# Altium footprint library LEAKCAM.PcbLib: 37 footprints (part 1 of 3)
Each footprint in its own frame and in the unit in brackets; x right, y up, seen from the top. Pads: shape width x height; smd on the part's side, far side on the other; paste and mask are expansions set on the pad; w line width, h text height; cw(c..) or ccw(c..) is an arc to the next point about the centre after c.
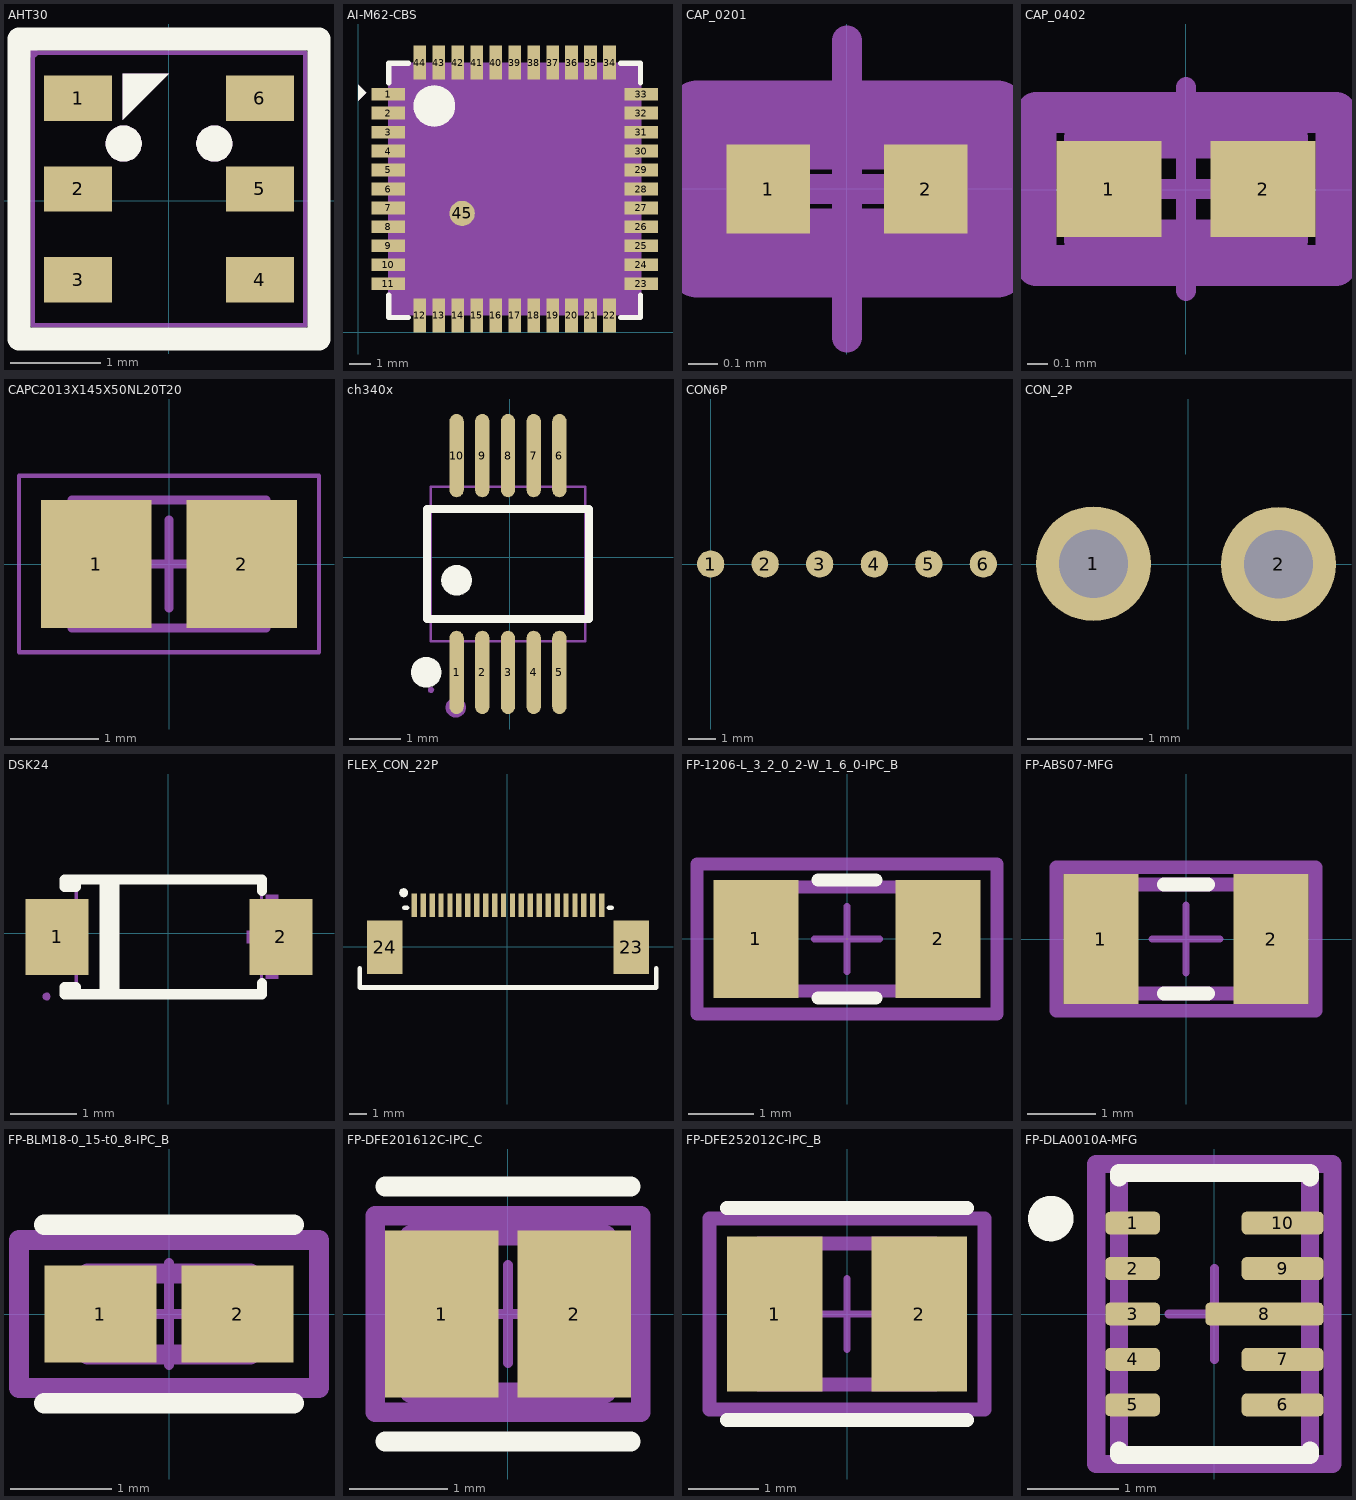
[diagram p0: the footprints below, top view; thin cyan lines are the x and y axes]

## AHT30 [mil]
pads (6):
  rect 29.5x19.7 smd: 1(-39.4,44.4) 2(-39.4,5) 3(-39.4,-34.4) 4(39.4,-34.4) 5(39.4,5) 6(39.4,44.4)
Top Overlay:
  region: -20,35 -20,55 0,55
  lines w7.9: -23.6,24.7 -23.2,23 -22.1,21.6 -20.6,20.8 -18.8,20.8 -17.2,21.6 -16.1,23 -15.7,24.7 -16.1,26.4 -17.2,27.8 -18.8,28.5 -20.6,28.5 -22.1,27.8 -23.2,26.4 -23.6,24.7 ; 15.7,24.7 16.1,23 17.2,21.6 18.8,20.8 20.6,20.8 22.1,21.6 23.2,23 23.6,24.7 23.2,26.4 22.1,27.8 20.6,28.5 18.8,28.5 17.2,27.8 16.1,26.4 15.7,24.7
  lines w10: -65,-60 -65,70 65,70 65,-60 -65,-60
Mechanical 2:
  region: -20,35 -20,55 0,55
  lines w7.9: -23.6,24.7 -23.2,23 -22.1,21.6 -20.6,20.8 -18.8,20.8 -17.2,21.6 -16.1,23 -15.7,24.7 -16.1,26.4 -17.2,27.8 -18.8,28.5 -20.6,28.5 -22.1,27.8 -23.2,26.4 -23.6,24.7 ; 15.7,24.7 16.1,23 17.2,21.6 18.8,20.8 20.6,20.8 22.1,21.6 23.2,23 23.6,24.7 23.2,26.4 22.1,27.8 20.6,28.5 18.8,28.5 17.2,27.8 16.1,26.4 15.7,24.7
Mechanical 6:
  lines w2: -59.1,-54.1 -59.1,64.1 59.1,64.1 59.1,-54.1 -59.1,-54.1
Mechanical 8:
  region: -56.7,64.1 -57.1,62.8 -58.1,61.9 -59.4,61.7 -60.6,62.3 -61.3,63.4 -61.3,64.7 -60.6,65.8 -59.4,66.4 -58.1,66.2 -57.1,65.3
Mechanical 9:
  region: -51.2,-26.5 -51.2,-42.2 -27.6,-42.2 -27.6,-26.5
  region: 27.6,-26.5 27.6,-42.2 51.2,-42.2 51.2,-26.5
  region: -51.2,12.9 -51.2,-2.9 -27.6,-2.9 -27.6,12.9
  region: 27.6,12.9 27.6,-2.9 51.2,-2.9 51.2,12.9
  region: -51.2,52.2 -51.2,36.5 -27.6,36.5 -27.6,52.2
  region: 27.6,52.2 27.6,36.5 51.2,36.5 51.2,52.2
3D body "AHT30.step": height 31.5, standoff -0.39, extent -59.06,-54.09 59.06,64.06

## AI-M62-CBS [mil]
pads (45):
  rect 63x23.6 smd paste+0 mask+2: 1(56.3,444.9) 2(56.3,409.5) 3(56.3,374) 4(56.3,338.6) 5(56.3,303.2) 6(56.3,267.7) 7(56.3,232.3) 8(56.3,196.9) 9(56.3,161.4) 10(56.3,126) 11(56.3,90.6) 23(528.7,90.6) 24(528.7,126) 25(528.7,161.4) 26(528.7,196.9) 27(528.7,232.3) 28(528.7,267.7) 29(528.7,303.2) 30(528.7,338.6) 31(528.7,374) 32(528.7,409.5) 33(528.7,444.9)
  rect 23.6x63 smd paste+0 mask+2: 12(115.3,31.5) 13(150.8,31.5) 14(186.2,31.5) 15(221.6,31.5) 16(257.1,31.5) 17(292.5,31.5) 18(327.9,31.5) 19(363.4,31.5) 20(398.8,31.5) 21(434.2,31.5) 22(469.7,31.5) 34(469.7,503.9) 35(434.2,503.9) 36(398.8,503.9) 37(363.4,503.9) 38(327.9,503.9) 39(292.5,503.9) 40(257.1,503.9) 41(221.6,503.9) 42(186.2,503.9) 43(150.8,503.9) 44(115.3,503.9)
  round 47.2 smd paste+0 mask+2: 45(194.5,222.1)
Top Overlay:
  region: 104,422.7 104.4,428.2 105.5,433.6 107.4,438.7 110.1,443.6 113.4,448 117.3,451.8 121.7,455.1 126.5,457.8 131.6,459.7 137,460.9 142.5,461.3 148,460.9 153.4,459.7 158.5,457.8 163.3,455.1 167.7,451.8 171.6,448 174.9,443.6 177.6,438.7 179.5,433.6 180.6,428.2 181,422.7 180.6,417.2 179.5,411.9 177.6,406.7 174.9,401.9 171.6,397.5 167.7,393.6 163.3,390.3 158.5,387.7 153.4,385.7 148,384.6 142.5,384.2 137,384.6 131.6,385.7 126.5,387.7 121.7,390.3 117.3,393.6 113.4,397.5 110.1,401.9 107.4,406.7 105.5,411.9 104.4,417.2
  region: 0,432.7 0,462.7 15,447.7
  lines w10: 57.5,69.6 57.5,27.7 94.4,27.7 ; 57.5,465.8 57.5,502.7 94.4,502.7 92.5,502.7 ; 490.6,27.7 527.5,27.7 527.5,69.6 ; 490.6,502.7 527.5,502.7 527.5,465.8
Mechanical 5:
  region: 0,432.7 0,462.7 15,447.7
Mechanical 9:
  region: 56.3,31.5 56.3,503.9 528.7,503.9 528.7,31.5
Mechanical 10:
  region: 206.3,222 205.9,219.1 204.8,216.4 203.1,214 200.8,212.1 198.1,210.8 195.2,210.3 192.3,210.4 189.4,211.4 186.9,212.9 184.9,215.1 183.5,217.7 182.8,220.6 182.8,223.5 183.5,226.4 184.9,229 186.9,231.1 189.4,232.7 192.3,233.6 195.2,233.8 198.1,233.3 200.8,232 203.1,230.1 204.8,227.7 205.9,225
Mechanical 11:
  region: 57.5,503.9 57.1,503.1 56.3,502.8 55.4,503.1 55.1,503.9 55.4,504.8 56.3,505.1 57.1,504.8
Mechanical 12:
  drawing of 44 lines, arcs and shapes, not listed
3D body "AI-M62-CBS.step": height 79.13, standoff -0.39, extent 53.78,33.78 526.22,506.22

## CAP_0201 [mm]
pads (2):
  rect 0.28x0.3 smd paste+0 mask+0: 1(-0.264,-0.001) 2(0.266,-0.001)
Top Courtyard:
  lines w0.2: -0.504,-0.266 -0.504,0.264 0.506,0.264 0.506,-0.266 -0.504,-0.266
Top Assembly:
  lines w0.2: -0.504,-0.266 -0.504,0.264 0.506,0.264 0.506,-0.266 -0.504,-0.266
Top 3D Body:
  lines w0.2: -0.314,-0.166 -0.314,0.164 0.316,0.164 0.316,-0.166 -0.314,-0.166
Top Component Center:
  lines w0.1: -0.499,-0.001 0.501,-0.001 ; 0.001,-0.501 0.001,0.499
3D body "Cap_Yageo_CC0201KRX7R6BB102_eec.STEP": height 0.33, standoff 0, extent -0.299,-0.151 0.301,0.149

## CAP_0402 [mm]
pads (2):
  rect 0.515x0.472 smd paste+0 mask+0: 1(-0.378,0.004) 2(0.379,0.004)
Top Courtyard:
  lines w0.2: -0.735,-0.371 0.737,-0.371 0.737,0.379 -0.735,0.379 -0.735,-0.371
Top Assembly:
  lines w0.2: -0.735,-0.371 0.737,-0.371 0.737,0.379 -0.735,0.379 -0.735,-0.371
Top 3D Body:
  lines w0.2: -0.499,-0.246 0.501,-0.246 0.501,0.254 -0.499,0.254 -0.499,-0.246
Top Component Center:
  lines w0.1: -0.499,0.004 0.501,0.004 ; 0.001,-0.496 0.001,0.504
3D body "Res_Yageo_AC0402FR-0716R2L_eec.STEP": height 0.37, standoff 0, extent -0.499,-0.246 0.501,0.254

## CAPC2013X145X50NL20T20 [mm] "Chip Capacitor, 2-Leads, Body 2.00x1.25mm, IPC Medium Density"
height 1.45
pads (2):
  rect 1.25x1.45 smd: 1(-0.825,0) 2(0.825,0)
Top 3D Body:
  lines w0.1: -1.1,-0.725 -1.1,0.725 1.1,0.725 1.1,-0.725 -1.1,-0.725
Mechanical 15:
  lines w0.05: -1.7,-1 -1.7,1 1.7,1 1.7,-1 -1.7,-1
  lines w0.1: -0.5,0 0.5,0 ; 0,-0.5 0,0.5
3D body "CAPC2013X145X50NL20T20.step": height 1.31, standoff 0.01, extent -1.003,-0.678 0.997,0.622

## ch340x [mil]
pads (10):
  oval 11x63.8 smd: 1(-40.8,-88.1) 2(-21.1,-88.1) 3(-1.4,-88.1) 4(18.3,-88.1) 5(38,-88.1) 6(38,78) 7(18.3,78) 8(-1.4,78) 9(-21.1,78) 10(-40.8,78)
Top Overlay:
  lines w6: -63.5,-47.2 -63.5,37.1 60.7,37.1 60.7,-47.2 -63.5,-47.2
  lines w11.8: -70,-88.1 -69.6,-90.1 -68.6,-91.9 -67,-93.2 -65.1,-93.9 -63.1,-93.9 -61.1,-93.2 -59.6,-91.9 -58.5,-90.1 -58.2,-88.1 -58.5,-86.1 -59.6,-84.3 -61.1,-83 -63.1,-82.3 -65.1,-82.3 -67,-83 -68.6,-84.3 -69.6,-86.1 -70,-88.1 ; -46.7,-17.6 -46.3,-19.6 -45.3,-21.4 -43.7,-22.7 -41.8,-23.4 -39.7,-23.4 -37.8,-22.7 -36.2,-21.4 -35.2,-19.6 -34.9,-17.6 -35.2,-15.6 -36.2,-13.8 -37.8,-12.5 -39.7,-11.8 -41.8,-11.8 -43.7,-12.5 -45.3,-13.8 -46.3,-15.6 -46.7,-17.6
Mechanical 2:
  lines w7.9: -45.3,-115 -44.9,-116.7 -43.9,-118.1 -42.3,-118.9 -40.5,-118.9 -38.9,-118.1 -37.9,-116.7 -37.5,-115 -37.9,-113.3 -38.9,-112 -40.5,-111.2 -42.3,-111.2 -43.9,-112 -44.9,-113.3 -45.3,-115
Mechanical 6:
  lines w2: -60.5,-64.1 -60.5,54 57.7,54 57.7,-64.1 -60.5,-64.1
Mechanical 7:
  region: -45.2,-80.2 -45.2,-63.7 -36.3,-63.7 -36.3,-80.2
  region: -25.5,-80.2 -25.5,-63.7 -16.7,-63.7 -16.7,-80.2
  region: -5.8,-80.2 -5.8,-63.7 3,-63.7 3,-80.2
  region: 13.9,-80.2 13.9,-63.7 22.7,-63.7 22.7,-80.2
  region: 33.5,-80.2 33.5,-63.7 42.4,-63.7 42.4,-80.2
  region: -45.2,70.2 -45.2,53.6 -36.3,53.6 -36.3,70.2
  region: -25.5,70.2 -25.5,53.6 -16.7,53.6 -16.7,70.2
  region: -5.8,70.2 -5.8,53.6 3,53.6 3,70.2
  region: 13.9,70.2 13.9,53.6 22.7,53.6 22.7,70.2
  region: 33.5,70.2 33.5,53.6 42.4,53.6 42.4,70.2
Mechanical 8:
  region: -58.1,-101.5 -58.5,-102.8 -59.5,-103.6 -60.8,-103.8 -62,-103.3 -62.7,-102.2 -62.7,-100.8 -62,-99.7 -60.8,-99.2 -59.5,-99.4 -58.5,-100.2
Mechanical 9:
  region: -45.2,-101.5 -45.2,-79.8 -36.3,-79.8 -36.3,-101.5
  region: -25.5,-101.5 -25.5,-79.8 -16.7,-79.8 -16.7,-101.5
  region: -5.8,-101.5 -5.8,-79.8 3,-79.8 3,-101.5
  region: 13.9,-101.5 13.9,-79.8 22.7,-79.8 22.7,-101.5
  region: 33.5,-101.5 33.5,-79.8 42.4,-79.8 42.4,-101.5
  region: -45.2,91.4 -45.2,69.8 -36.3,69.8 -36.3,91.4
  region: -25.5,91.4 -25.5,69.8 -16.7,69.8 -16.7,91.4
  region: -5.8,91.4 -5.8,69.8 3,69.8 3,91.4
  region: 13.9,91.4 13.9,69.8 22.7,69.8 22.7,91.4
  region: 33.5,91.4 33.5,69.8 42.4,69.8 42.4,91.4
3D body "ch340x.step": height 43.35, standoff 0, extent -60.46,-103.88 57.65,92.97

## CON6P [mm]
pads (6):
  round 1 smd: 1(0,0) 2(2,0) 3(4,0) 4(6,0) 5(8,0) 6(10,0)

## CON_2P [mm]
pads (2):
  round 1 hole 0.6: 1(-0.825,0.004) 2(0.787,0)

## DSK24 [mil]
pads (2):
  rect 37.4x45.3 smd: 1(-66.3,-2.2) 2(67,-2.2)
Top Overlay:
  lines w6: -37.9,-36.3 -37.9,31.9 ; -32.2,-36.3 -32.2,31.9 ; 55.7,-29.7 55.7,-36.3 -55,-36.3 ; 55.7,25.3 55.7,31.9 -55,31.9 ; -55,-36.3 -55,-31.9 -61.9,-31.9 -61.9,-36.3 -55,-36.3 ; -55,31.9 -55,27.5 -61.9,27.5 -61.9,31.9 -55,31.9
Mechanical 2:
  region: 65.3,22.8 65.3,-27 57.9,-27 57.9,22.8
  region: 76.5,1.6 76.5,-5.8 46.7,-5.8 46.7,1.6
  region: -79.6,1.5 -79.6,-5.9 -49.7,-5.9 -49.7,1.5
Mechanical 6:
  lines w2: -54.8,-37.6 55.4,-37.6 55.4,33.2 -54.8,33.2 -54.8,-37.6
Mechanical 8:
  region: -70.2,-37.6 -70.5,-38.9 -71.5,-39.8 -72.9,-40 -74.1,-39.4 -74.8,-38.3 -74.8,-37 -74.1,-35.9 -72.9,-35.3 -71.5,-35.5 -70.5,-36.4
Mechanical 9:
  region: 73.2,-20.5 73.2,16.1 51.5,16.1 51.5,-20.5
  region: -72.5,-20.5 -72.5,16.1 -50.9,16.1 -50.9,-20.5
3D body "DSK24.step": height 38.19, standoff -6.69, extent -74.59,-38.3 71.08,32.57

## FLEX_CON_22P [mil]
pads (24):
  rect 11.8x51.2 smd paste+0 mask+2: 1(-204.9,91.3) 2(-185.2,91.3) 3(-165.6,91.3) 4(-145.9,91.3) 5(-126.2,91.3) 6(-106.5,91.3) 7(-86.8,91.3) 8(-67.1,91.3) 9(-47.4,91.3) 10(-27.8,91.3) 11(-8.1,91.3) 12(11.6,91.3) 13(31.3,91.3) 14(51,91.3) 15(70.7,91.3) 16(90.4,91.3) 17(110,91.3) 18(129.7,91.3) 19(149.4,91.3) 20(169.1,91.3) 21(188.8,91.3) 22(208.5,91.3)
  rect 78.7x118.1 smd paste+0 mask+2: 23(273.4,-1.2) 24(-269.9,-1.2)
Top Overlay:
  lines w10: -325,-47.7 -325,-90 328.5,-90 328.5,-47.7 ; -226.5,86.3 -220.9,86.3 ; 224.4,86.3 230,86.3 ; -233.2,118.9 -232.9,117 -231.8,115.4 -230.1,114.3 -228.2,113.9 -226.3,114.3 -224.7,115.4 -223.6,117 -223.2,118.9 -223.6,120.9 -224.7,122.5 -226.3,123.6 -228.2,123.9 -230.1,123.6 -231.8,122.5 -232.9,120.9 -233.2,118.9
3D body "FLEX_CON_22P.step": height 79.13, standoff 0, extent -300.49,-92.14 305.81,109.43

## FP-1206-L_3_2_0_2-W_1_6_0-IPC_B [mm]
pads (2):
  rect 1.305x1.806 smd paste+0 mask+0: 1(-1.401,0) 2(1.401,0)
Top Overlay:
  lines w0.2: -0.448,-0.903 0.448,-0.903 ; -0.448,0.903 0.448,0.903
Top Courtyard:
  lines w0.2: -2.303,-1.153 -2.303,1.153 2.303,1.153 2.303,-1.153 -2.303,-1.153
Top Assembly:
  lines w0.2: -2.303,-1.153 -2.303,1.153 2.303,1.153 2.303,-1.153 -2.303,-1.153
  text ".Designator" at 0,0.188 h1
Top 3D Body:
  lines w0.2: -1.6,-0.8 -1.6,0.8 1.6,0.8 1.6,-0.8 -1.6,-0.8
Top Component Center:
  lines w0.1: -0.5,0 0.5,0 ; 0,-0.5 0,0.5
3D body "Cap_AVX_12062A102GAT2A_eec.STEP": height 0.25, standoff 0, extent -2.303,-1.153 2.303,1.153

## FP-ABS07-MFG [mm]
pads (2):
  rect 1.1x1.9 smd paste+0 mask+0: 1(-1.25,0) 2(1.25,0)
Top Overlay:
  lines w0.2: -0.325,-0.8 0.325,-0.8 ; -0.325,0.8 0.325,0.8
Top Courtyard:
  lines w0.2: -1.9,-1.05 -1.9,1.05 1.9,1.05 1.9,-1.05 -1.9,-1.05
Top Assembly:
  lines w0.2: -1.9,-1.05 -1.9,1.05 1.9,1.05 1.9,-1.05 -1.9,-1.05
  text ".Designator" at 0,0.188 h1
Top 3D Body:
  lines w0.2: -1.65,-0.8 -1.65,0.8 1.65,0.8 1.65,-0.8 -1.65,-0.8
Top Component Center:
  lines w0.1: -0.5,0 0.5,0 ; 0,-0.5 0,0.5
3D body "Crys_Abracon_ABS07-166-32_768KHZ-T_eec.STEP": height 0.25, standoff 0, extent -1.9,-1.05 1.9,1.05

## FP-BLM18-0_15-t0_8-IPC_B [mm]
pads (2):
  rect 1.106x0.958 smd paste+0 mask+0: 1(-0.676,0) 2(0.676,0)
Top Overlay:
  lines w0.2: -1.229,-0.879 1.229,-0.879 ; -1.229,0.879 1.229,0.879
Top Courtyard:
  lines w0.2: -1.479,-0.729 -1.479,0.729 1.479,0.729 1.479,-0.729 -1.479,-0.729
Top Assembly:
  lines w0.2: -1.479,-0.729 -1.479,0.729 1.479,0.729 1.479,-0.729 -1.479,-0.729
  text ".Designator" at 0,0.188 h1
Top 3D Body:
  lines w0.2: -0.8,-0.4 -0.8,0.4 0.8,0.4 0.8,-0.4 -0.8,-0.4
Top Component Center:
  lines w0.1: -0.5,0 0.5,0 ; 0,-0.5 0,0.5
3D body "FBead_Murata_BLM18EG221SN1D_eec.STEP": height 0.25, standoff 0, extent -1.479,-0.729 1.479,0.729

## FP-DFE201612C-IPC_C [mm]
pads (2):
  rect 1.154x1.706 smd paste+0 mask+0: 1(-0.676,0) 2(0.676,0)
Top Overlay:
  lines w0.2: -1.253,-1.3 1.253,-1.3 ; -1.253,1.3 1.253,1.3
Top Courtyard:
  lines w0.2: -1.353,-1 -1.353,1 1.353,1 1.353,-1 -1.353,-1
Top Assembly:
  lines w0.2: -1.353,-1 -1.353,1 1.353,1 1.353,-1 -1.353,-1
  text ".Designator" at 0,0.188 h1
Top 3D Body:
  lines w0.2: -1,-0.8 -1,0.8 1,0.8 1,-0.8 -1,-0.8
Top Component Center:
  lines w0.1: -0.5,0 0.5,0 ; 0,-0.5 0,0.5
3D body "Ind_Murata_1286AS-H-1R0M=P2_eec.STEP": height 0.25, standoff 0, extent -1.353,-1 1.353,1

## FP-DFE252012C-IPC_B [mm]
pads (2):
  rect 1.355x2.206 smd paste+0 mask+0: 1(-1.026,0) 2(1.026,0)
Top Overlay:
  lines w0.2: -1.703,-1.503 1.703,-1.503 ; -1.703,1.503 1.703,1.503
Top Courtyard:
  lines w0.2: -1.953,-1.353 -1.953,1.353 1.953,1.353 1.953,-1.353 -1.953,-1.353
Top Assembly:
  lines w0.2: -1.953,-1.353 -1.953,1.353 1.953,1.353 1.953,-1.353 -1.953,-1.353
  text ".Designator" at 0,0.188 h1
Top 3D Body:
  lines w0.2: -1.25,-1 -1.25,1 1.25,1 1.25,-1 -1.25,-1
Top Component Center:
  lines w0.1: -0.5,0 0.5,0 ; 0,-0.5 0,0.5
3D body "Ind_Murata_DFE252012F-4R7M=P2_eec.STEP": height 0.25, standoff 0, extent -1.953,-1.353 1.953,1.353

## FP-DLA0010A-MFG [mm]
pads (10):
  rrect40% 0.6x0.25 smd paste+0 mask+0: 1(-0.9,1) 2(-0.9,0.5) 3(-0.9,0) 4(-0.9,-0.5) 5(-0.9,-1)
  rrect40% 0.9x0.25 smd paste+0 mask+0: 6(0.75,-1) 7(0.75,-0.5) 9(0.75,0.5) 10(0.75,1)
  rrect40% 1.3x0.25 smd paste-1000 mask+0: 8(0.55,0)
Top Overlay:
  circle w0.25: c-1.8,1.05 r0.125
  lines w0.2: -1.05,-1.5 -1.05,-1.55 1.05,-1.55 1.05,-1.5 ; -1.05,1.5 -1.05,1.55 1.05,1.55 1.05,1.5
Top Paste:
  region: 1.2,-0.075 1.2,-0.085 1.192,-0.103 1.178,-0.117 1.16,-0.125 1.15,-0.125 0.7,-0.125 0.69,-0.125 0.672,-0.117 0.658,-0.103 0.65,-0.085 0.65,-0.075 0.65,0.075 0.65,0.085 0.658,0.103 0.672,0.117 0.69,0.125 0.7,0.125 1.15,0.125 1.16,0.125 1.178,0.117 1.192,0.103 1.2,0.085 1.2,0.075
  region: -0.05,-0.125 -0.06,-0.125 -0.078,-0.117 -0.092,-0.103 -0.1,-0.085 -0.1,-0.075 -0.1,0.075 -0.1,0.085 -0.092,0.103 -0.078,0.117 -0.06,0.125 -0.05,0.125 0.4,0.125 0.41,0.125 0.428,0.117 0.442,0.103 0.45,0.085 0.45,0.075 0.45,-0.075 0.45,-0.085 0.442,-0.103 0.428,-0.117 0.41,-0.125 0.4,-0.125
Top Courtyard:
  lines w0.2: -1.3,-1.65 -1.3,1.65 1.3,1.65 1.3,-1.65 -1.3,-1.65
Top Assembly:
  lines w0.2: -1.3,-1.65 -1.3,1.65 1.3,1.65 1.3,-1.65 -1.3,-1.65
  text ".Designator" at 0,0.188 h1
Top 3D Body:
  lines w0.2: -1.05,-1.55 -1.05,1.55 1.05,1.55 1.05,-1.55 -1.05,-1.55
Top Component Center:
  lines w0.1: -0.5,0 0.5,0 ; 0,-0.5 0,0.5
3D body "IC_Texas_Instruments_TPS63802DLAR_eec.STEP": height 1, standoff 0, extent -1,-1.5 1,1.5